# Altium schematic symbol library C0805C479D3HACTU.SchLib: 1 symbol
Pins are listed as number, name and electrical type; pins without a type are passive.

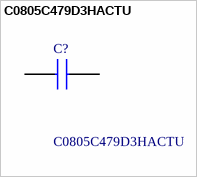
[diagram p0: symbol C0805C479D3HACTU]

## C0805C479D3HACTU
designator C?
SMD Comm X8R HT150C, Ceramic, 4.7 pF, +/-0.5 pF, 25 VDC, 62.5 VDC, 150C, -55C, X8R, SMD, MLCC, High Temperature, Ultra-Stable, 2.5 % , 100 GOhms, 11 mg, 0805, 2mm, 1.25mm, 0.78mm, 0.75mm, 0.5mm, 4000, 78  Weeks; Manufacturer_Name: KEMET; Geometry.Height: 0.88mm; Manufacturer_Part_Number: C0805C479D3HACTU; Mouser Part Number: 80-C0805C479D3HACTU; Mouser Price/Stock: https://www.mouser.co.uk/ProductDetail/KEMET/C0805C479D3HACTU?qs=W0yvOO0ixfGP6MVfqdQ%252BQg%3D%3D; Arrow Part Number: *; Arrow Price/Stock: *; Datasheet Link: https://content.kemet.com/datasheets/KEM_C1007_X8R_ULTRA_150C_SMD.pdf
footprint CAPC2012X88N
pins: 1, 2